# Altium footprint library ANALOGDEVICES_LETUNOV.PcbLib: 4 footprints
Each footprint in its own frame and in the unit in brackets; x right, y up, seen from the top. Pads: shape width x height; smd on the part's side, far side on the other; paste and mask are expansions set on the pad; w line width, h text height; cw(c..) or ccw(c..) is an arc to the next point about the centre after c.
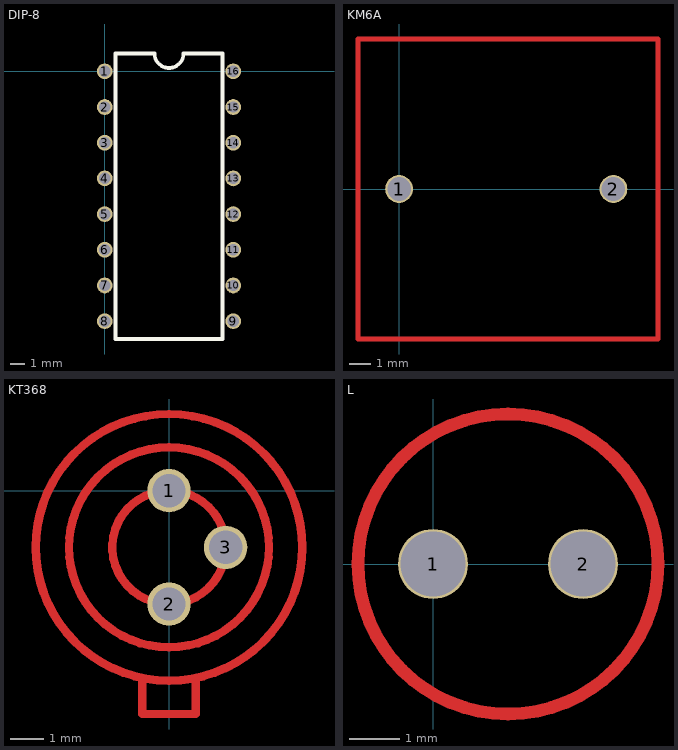
[diagram p0: the footprints below, top view; thin cyan lines are the x and y axes]

## DIP-8 [mm]
pads (16):
  round 1.1 hole 0.8: 1(0,0) 2(0,-2.5) 3(0,-5) 4(0,-7.5) 5(0,-10) 6(0,-12.5) 7(0,-15) 8(0,-17.5) 9(9.003,-17.5) 10(9.003,-15) 11(9.003,-12.5) 12(9.003,-10) 13(9.003,-7.5) 14(9.003,-5) 15(9.003,-2.5) 16(9.003,0)
Top Overlay:
  lines w0.254: 0.751,-18.75 8.251,-18.75 8.251,1.25 5.517,1.25 cw(c4.501,1.25) 3.485,1.25 0.751,1.25 0.751,-18.75

## KM6A [mm]
pads (2):
  round 1.3 hole 1.1: 1(0,0) 2(10,0)
Top Layer:
  lines w0.254: -1.92,-7 12.08,-7 12.08,7 -1.92,7 -1.92,-7

## KT368 [mm]
pads (3):
  round 1.3 hole 1 unplated: 1(0,0) 2(0,-3.4) 3(1.7,-1.7)
Top Layer:
  circle w0.254: c0,-1.7 r1.7
  lines w0.254: -0.8,-5.7 -0.8,-6.7 0.8,-6.7 0.8,-5.7 ; -4,-1.7 cw(c0,-1.7) 4,-1.7 cw(c0,-1.7) -4,-1.7 ; 0,-4.7 cw(c0,-1.7) 0,1.3 cw(c0,-1.7) 0,-4.7

## L [mm]
pads (2):
  round 1.4 hole 1.3: 1(0,0) 2(3,0)
Top Layer:
  lines w0.254: 1.5,-3 cw(c1.5,0) 1.5,3 cw(c1.5,0) 1.5,-3